# EAGLE library part FXMA2104UMX (library glasses)
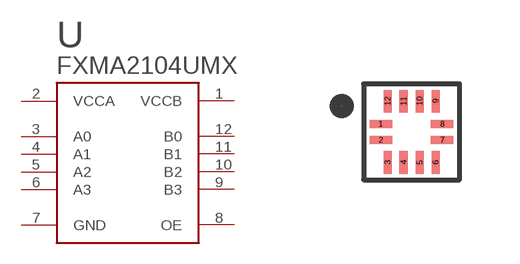
[diagram p10: symbol with the pads of 12MLP; footprint 12MLP]

Designator prefix U

## FXMA2104UMX  [12MLP]
1  VCCB
2  VCCA
3  A0
4  A1
5  A2
6  A3
7  GND
8  OE
9  B3
10  B2
11  B1
12  B0

## Footprint 12MLP (pad centres in mm)
smd 0.563 x 0.2: 1 -0.768,0.2; 2 -0.768,-0.2; 7 0.768,-0.2; 8 0.768,0.2
smd 0.2 x 0.563: 3 -0.6,-0.768; 4 -0.2,-0.768; 5 0.2,-0.768; 6 0.6,-0.768; 9 0.6,0.768; 10 0.2,0.768; 11 -0.2,0.768; 12 -0.6,0.768